# Altium footprint library MEGA.PcbLib: 237 footprints (part 8 of 15)
Each footprint in its own frame and in the unit in brackets; x right, y up, seen from the top. Pads: shape width x height; smd on the part's side, far side on the other; paste and mask are expansions set on the pad; w line width, h text height; cw(c..) or ccw(c..) is an arc to the next point about the centre after c.
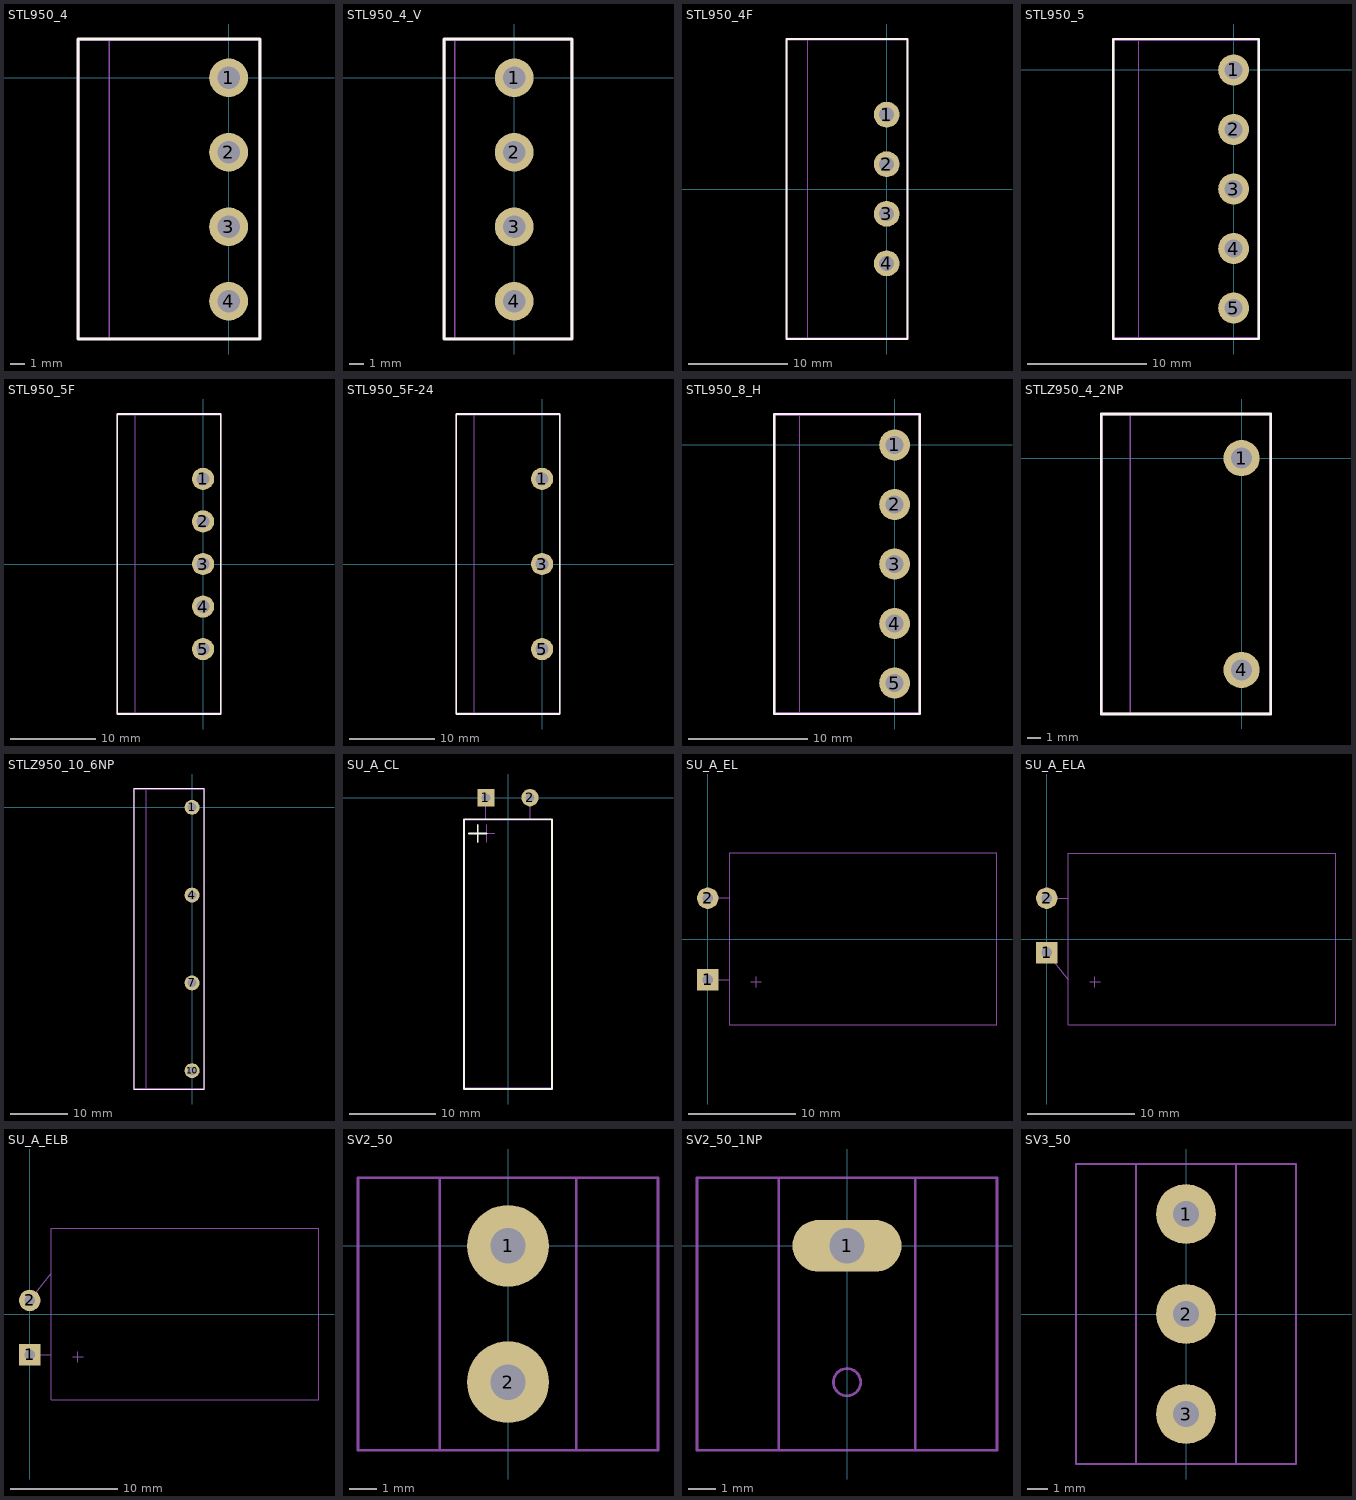
[diagram p7: the footprints below, top view; thin cyan lines are the x and y axes]

## STL950_4 [mm]
pads (4):
  round 2.6 hole 1.5 mask+0.05: 1(0,0) 2(0,-5) 3(0,-10) 4(0,-15)
Top Overlay:
  lines w0.2: -10.096,-17.54 2.095,-17.54 2.095,2.6 -10.096,2.6 -10.096,-17.54
Mechanical 15:
  circle w0.1: c0,0 r0.75
  circle w0.1: c0,-15 r0.75
  circle w0.1: c0,-10 r0.75
  circle w0.1: c0,-5 r0.75
  lines w0.1: -8,-17.477 -8,2.5 ; -10.033,-17.477 2.032,-17.477 2.032,2.5 -10.033,2.5 -10.033,-17.477
Mechanical 16:
  circle w0.1: c0,0 r0.75
  circle w0.1: c0,-15 r0.75
  circle w0.1: c0,-10 r0.75
  circle w0.1: c0,-5 r0.75
Multi-Layer:
  text "Value" at -6.252,-6.33 h0.75
Mechanical 19:
  lines w0.1: 0,-0.635 0,0 0.635,0
Mechanical 20:
  lines w0.1: -10.096,-17.54 2.095,-17.54 2.095,2.6 -10.096,2.6 -10.096,-17.54

## STL950_4_V [mm]
pads (4):
  round 2.6 hole 1.5 mask+0.05: 1(0,0) 2(0,-5) 3(0,-10) 4(0,-15)
Top Overlay:
  lines w0.2: -4.699,-17.54 3.873,-17.54 3.873,2.6 -4.699,2.6 -4.699,-17.54
Mechanical 15:
  circle w0.1: c0,0 r0.75
  circle w0.1: c0,-15 r0.75
  circle w0.1: c0,-10 r0.75
  circle w0.1: c0,-5 r0.75
  lines w0.1: -4,-17.477 -4,2.5 ; -4.635,-17.477 3.81,-17.477 3.81,2.5 -4.635,2.5 -4.635,-17.477
Mechanical 16:
  circle w0.1: c0,0 r0.75
  circle w0.1: c0,-15 r0.75
  circle w0.1: c0,-10 r0.75
  circle w0.1: c0,-5 r0.75
Multi-Layer:
  text "Value" at -1.299,-12.68 h0.75
Mechanical 19:
  lines w0.1: 0,-0.635 0,0 0.635,0
Mechanical 20:
  lines w0.1: -4.699,-17.54 3.873,-17.54 3.873,2.6 -4.699,2.6 -4.699,-17.54

## STL950_4F [mm]
pads (4):
  round 2.6 hole 1.5 mask+0.05: 1(0,7.5) 2(0,2.5) 3(0,-2.5) 4(0,-7.5)
Top Overlay:
  lines w0.2: -10.096,-15.12 2.095,-15.12 2.095,15.12 -10.096,15.12 -10.096,-15.12
Mechanical 15:
  circle w0.1: c0,7.5 r0.75
  circle w0.1: c0,-7.5 r0.75
  circle w0.1: c0,-2.5 r0.75
  circle w0.1: c0,2.5 r0.75
  lines w0.1: -8,-15.057 -8,15.057 ; -10.033,-15.057 2.032,-15.057 2.032,15.057 -10.033,15.057 -10.033,-15.057
Mechanical 16:
  circle w0.1: c0,7.5 r0.75
  circle w0.1: c0,-7.5 r0.75
  circle w0.1: c0,-2.5 r0.75
  circle w0.1: c0,2.5 r0.75
Multi-Layer:
  text "Value" at -6.252,1.17 h0.75
Mechanical 19:
  lines w0.1: 0,6.865 0,7.5 0.635,7.5
Mechanical 20:
  lines w0.1: -10.096,-15.12 2.095,-15.12 2.095,15.12 -10.096,15.12 -10.096,-15.12

## STL950_5 [mm]
pads (5):
  round 2.6 hole 1.5 mask+0.05: 1(0,0) 2(0,-5) 3(0,-10) 4(0,-15) 5(0,-20)
Top Overlay:
  lines w0.2: -10.096,-22.6 2.095,-22.6 2.095,2.6 -10.096,2.6 -10.096,-22.6
Mechanical 15:
  circle w0.1: c0,0 r0.75
  circle w0.1: c0,-15 r0.75
  circle w0.1: c0,-10 r0.75
  circle w0.1: c0,-5 r0.75
  circle w0.1: c0,-20 r0.75
  lines w0.1: -8,-22.5 -8,2.5 ; -10.033,-22.5 2.032,-22.5 2.032,2.5 -10.033,2.5 -10.033,-22.5
Mechanical 16:
  circle w0.1: c0,0 r0.75
  circle w0.1: c0,-15 r0.75
  circle w0.1: c0,-20 r0.75
  circle w0.1: c0,-10 r0.75
  circle w0.1: c0,-5 r0.75
Multi-Layer:
  text "Value" at -6.252,-6.33 h0.75
Mechanical 19:
  lines w0.1: 0,-0.635 0,0 0.635,0
Mechanical 20:
  lines w0.1: -10.096,-22.6 2.095,-22.6 2.095,2.6 -10.096,2.6 -10.096,-22.6

## STL950_5F [mm]
pads (5):
  round 2.6 hole 1.5 mask+0.05: 1(0,10) 2(0,5) 3(0,0) 4(0,-5) 5(0,-10)
Top Overlay:
  lines w0.2: -10.096,-17.62 2.095,-17.62 2.095,17.62 -10.096,17.62 -10.096,-17.62
Mechanical 15:
  circle w0.1: c0,10 r0.75
  circle w0.1: c0,-5 r0.75
  circle w0.1: c0,0 r0.75
  circle w0.1: c0,5 r0.75
  circle w0.1: c0,-10 r0.75
  lines w0.1: -8,-17.557 -8,17.557 ; -10.033,-17.557 2.032,-17.557 2.032,17.557 -10.033,17.557 -10.033,-17.557
Mechanical 16:
  circle w0.1: c0,10 r0.75
  circle w0.1: c0,-5 r0.75
  circle w0.1: c0,-10 r0.75
  circle w0.1: c0,0 r0.75
  circle w0.1: c0,5 r0.75
Multi-Layer:
  text "Value" at -6.252,3.67 h0.75
Mechanical 19:
  lines w0.1: 0,9.365 0,10 0.635,10
Mechanical 20:
  lines w0.1: -10.096,-17.62 2.095,-17.62 2.095,17.62 -10.096,17.62 -10.096,-17.62

## STL950_5F-24 [mm]
pads (3):
  round 2.6 hole 1.5 mask+0.05: 1(0,10) 3(0,0) 5(0,-10)
Top Overlay:
  lines w0.2: -10.096,-17.62 2.095,-17.62 2.095,17.62 -10.096,17.62 -10.096,-17.62
Mechanical 15:
  circle w0.1: c0,10 r0.75
  circle w0.1: c0,0 r0.75
  circle w0.1: c0,-10 r0.75
  lines w0.1: -8,-17.557 -8,17.557 ; -10.033,-17.557 2.032,-17.557 2.032,17.557 -10.033,17.557 -10.033,-17.557
Mechanical 16:
  circle w0.1: c0,10 r0.75
  circle w0.1: c0,-10 r0.75
  circle w0.1: c0,0 r0.75
Multi-Layer:
  text "Value" at -6.252,3.67 h0.75
Mechanical 19:
  lines w0.1: 0,9.365 0,10 0.635,10
Mechanical 20:
  lines w0.1: -10.096,-17.62 2.095,-17.62 2.095,17.62 -10.096,17.62 -10.096,-17.62

## STL950_8_H [mm]
pads (5):
  round 2.6 hole 1.5 mask+0.05: 1(0,0) 2(0,-5) 3(0,-10) 4(0,-15) 5(0,-20)
Top Overlay:
  lines w0.2: -10.096,-22.6 2.095,-22.6 2.095,2.6 -10.096,2.6 -10.096,-22.6
Mechanical 15:
  circle w0.1: c0,0 r0.75
  circle w0.1: c0,-15 r0.75
  circle w0.1: c0,-10 r0.75
  circle w0.1: c0,-5 r0.75
  circle w0.1: c0,-20 r0.75
  lines w0.1: -8,-22.5 -8,2.5 ; -10.033,-22.5 2.032,-22.5 2.032,2.5 -10.033,2.5 -10.033,-22.5
Mechanical 16:
  circle w0.1: c0,0 r0.75
  circle w0.1: c0,-15 r0.75
  circle w0.1: c0,-20 r0.75
  circle w0.1: c0,-10 r0.75
  circle w0.1: c0,-5 r0.75
Multi-Layer:
  text "Value" at -6.252,-6.33 h0.75
Mechanical 19:
  lines w0.1: 0,-0.635 0,0 0.635,0
Mechanical 20:
  lines w0.1: -10.096,-22.6 2.095,-22.6 2.095,2.6 -10.096,2.6 -10.096,-22.6

## STLZ950_4_2NP [mm]
pads (2):
  round 2.6 hole 1.5 mask+0.05: 1(0,0) 4(0,-15.24)
Top Overlay:
  lines w0.2: -10.096,-18.415 2.095,-18.415 2.095,3.175 -10.096,3.175 -10.096,-18.415
Mechanical 15:
  circle w0.1: c0,0 r0.75
  circle w0.1: c0,-15.24 r0.75
  lines w0.1: -8.001,-18.351 -8.001,3.111 ; -10.033,-18.351 2.032,-18.351 2.032,3.111 -10.033,3.111 -10.033,-18.351
Mechanical 16:
  circle w0.1: c0,0 r0.75
  circle w0.1: c0,-15.24 r0.75
Multi-Layer:
  text "Value" at -6.252,-6.33 h0.75
Mechanical 19:
  lines w0.1: 0,-0.635 0,0 0.635,0
Mechanical 20:
  lines w0.1: -10.096,-18.415 2.095,-18.415 2.095,3.175 -10.096,3.175 -10.096,-18.415

## STLZ950_10_6NP [mm]
pads (4):
  round 2.6 hole 1.5 mask+0.05: 1(0,0) 4(0,-15.24) 7(0,-30.48) 10(0,-45.72)
Top Overlay:
  lines w0.2: -10.096,-48.895 2.095,-48.895 2.095,3.175 -10.096,3.175 -10.096,-48.895
Mechanical 15:
  circle w0.1: c0,0 r0.75
  circle w0.1: c0,-45.72 r0.75
  circle w0.1: c0,-15.24 r0.75
  circle w0.1: c0,-30.48 r0.75
  lines w0.1: -8.001,-48.831 -8.001,3.111 ; -10.033,-48.831 2.032,-48.831 2.032,3.111 -10.033,3.111 -10.033,-48.831
Mechanical 16:
  circle w0.1: c0,0 r0.75
  circle w0.1: c0,-15.24 r0.75
  circle w0.1: c0,-30.48 r0.75
  circle w0.1: c0,-45.72 r0.75
Multi-Layer:
  text "Value" at -6.252,-6.33 h0.75
Mechanical 19:
  lines w0.1: 0,-0.635 0,0 0.635,0
Mechanical 20:
  lines w0.1: -10.096,-48.895 2.095,-48.895 2.095,3.175 -10.096,3.175 -10.096,-48.895

## SU_A_CL [mm]
pads (2):
  rect 2x2 hole 1 mask+0.1: 1(-2.54,0)
  round 2 hole 1 mask+0.1: 2(2.54,0)
Top Overlay:
  lines w0.2: -4.491,-4.127 -2.492,-4.127 ; -3.491,-5.128 -3.491,-3.127 ; -5.08,-33.591 5.08,-33.591 5.08,-2.476 -5.08,-2.476 -5.08,-33.591
Mechanical 15:
  lines w0.1: -3.524,-4.127 -1.523,-4.127 ; -2.54,-2.54 -2.54,0 ; -2.524,-5.128 -2.524,-3.127 ; 2.54,-2.54 2.54,0 ; -5.016,-33.528 5.016,-33.528 5.016,-2.54 -5.016,-2.54 -5.016,-33.528
Multi-Layer:
  text "Value" at -1.426,-8.997 h0.75

## SU_A_EL [mm]
pads (2):
  rect 2x2 hole 1 mask+0.1: 1(0,-3.81)
  round 2 hole 1 mask+0.1: 2(0,3.81)
Mechanical 15:
  lines w0.1: 0,-3.8 2,-3.8 ; 0,3.8 2,3.8 ; 4,-4 5,-4 ; 4.5,-4.5 4.5,-3.5 ; 2,-8 27,-8 27,8 2,8 2,-8

## SU_A_ELA [mm]
pads (2):
  rect 2x2 hole 1 mask+0.1: 1(0,-1.27)
  round 2 hole 1 mask+0.1: 2(0,3.81)
Mechanical 15:
  lines w0.1: 0,-1.27 2,-3.8 ; 0,3.8 2,3.8 ; 4,-4 5,-4 ; 4.5,-4.5 4.5,-3.5 ; 2,-8 2,8 27,8 27,-8 2,-8
Multi-Layer:
  text "Value" at 12.765,-1.425 h0.75

## SU_A_ELB [mm]
pads (2):
  rect 2x2 hole 1 mask+0.1: 1(0,-3.81)
  round 2 hole 1 mask+0.1: 2(0,1.27)
Mechanical 15:
  lines w0.1: 0,-3.8 2,-3.8 ; 0,1.27 2,3.8 ; 4,-4 5,-4 ; 4.5,-4.5 4.5,-3.5 ; 2,-8 27,-8 27,8 2,8 2,-8
3D body: height 17, standoff 1, extent 1.897,-8 27.897,8

## SV2_50 [mm]
pads (2):
  round 3 / inner oval 4x3 / far side round 3 hole 1.3 mask+0.1: 1(0,0) 2(0,-5)
Mechanical 15:
  circle w0.1: c0,0 r0.65
  circle w0.1: c0,-5 r0.65
  lines w0.1: -5.5,-7.5 5.5,-7.5 5.5,2.5 -5.5,2.5 -5.5,-7.5
Mechanical 16:
  circle w0.1: c0,0 r0.65
  circle w0.1: c0,-5 r0.65
Mechanical 19:
  lines w0.1: -2.5,-7.5 -2.5,2.5 ; 2.5,-7.5 2.5,2.5

## SV2_50_1NP [mm]
pads (1):
  oval 4x1.9 hole 1.3 mask+0.1: 1(0,0)
Mechanical 15:
  circle w0.1: c0,0 r0.65
  lines w0.1: -5.5,-7.5 5.5,-7.5 5.5,2.5 -5.5,2.5 -5.5,-7.5
Mechanical 16:
  circle w0.1: c0,0 r0.65
Multi-Layer:
  text "Value" at -0.981,-3.75 h0.75
Mechanical 19:
  circle w0.1: c0,-5 r0.5
  lines w0.1: -2.5,-7.5 -2.5,2.5 ; 2.5,-7.5 2.5,2.5

## SV3_50 [mm]
pads (3):
  round 3 hole 1.3 mask+0.1: 1(0,5) 2(0,0) 3(0,-5)
Mechanical 15:
  circle w0.1: c0,0 r0.65
  circle w0.1: c0,-5 r0.65
  circle w0.1: c0,5 r0.65
  lines w0.1: -5.5,-7.5 5.5,-7.5 5.5,7.5 -5.5,7.5 -5.5,-7.5
Mechanical 16:
  circle w0.1: c0,5 r0.65
  circle w0.1: c0,0 r0.65
  circle w0.1: c0,-5 r0.65
Mechanical 19:
  lines w0.1: -2.5,-7.5 -2.5,7.5 ; 2.5,-7.5 2.5,7.5